# Altium schematic symbol library TYPE-C 2.0 USB.SchLib: 1 symbol
Pins are listed as number, name and electrical type; pins without a type are passive.

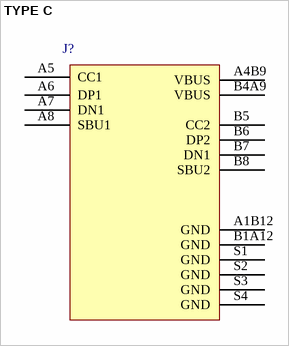
[diagram p0: symbol TYPE C]

## TYPE C
designator J?
HIRO TYPE-C-31-M-12
footprint HRO_TYPE-C-31-M-12
pins: A1B12 GND, A4B9 VBUS, A5 CC1, A6 DP1, A7 DN1, A8 SBU1, B1A12 GND, B4A9 VBUS, B5 CC2, B6 DP2, B7 DN1, B8 SBU2, S1 GND, S2 GND, S3 GND, S4 GND